# Altium footprint library CONN_A-4094-05A_MOL.PcbLib: 1 footprints
Each footprint in its own frame and in the unit in brackets; x right, y up, seen from the top. Pads: shape width x height; smd on the part's side, far side on the other; paste and mask are expansions set on the pad; w line width, h text height; cw(c..) or ccw(c..) is an arc to the next point about the centre after c.
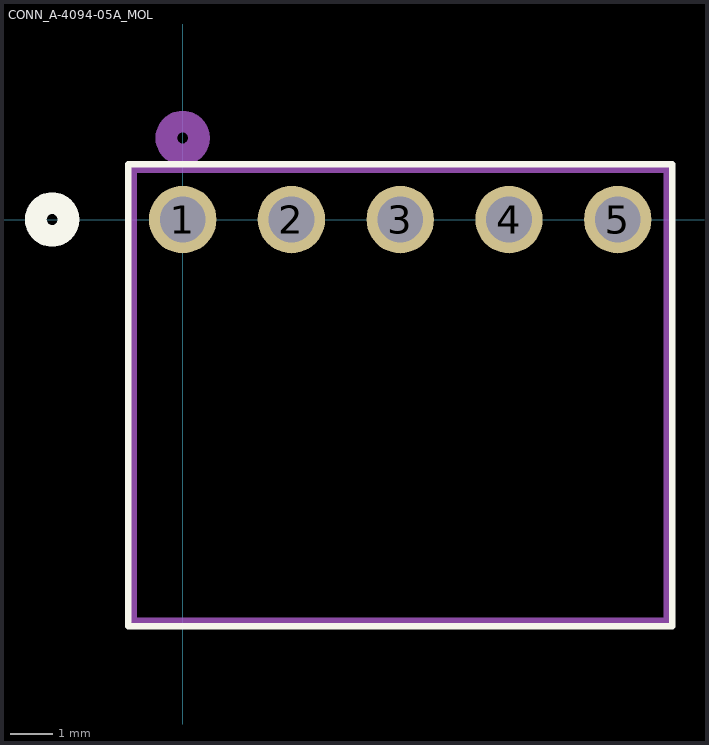
[diagram p0: the footprint, top view; thin cyan lines are the x and y axes]

## CONN_A-4094-05A_MOL [mil]
pads (5):
  round 62 hole 42: 1(0,0) 2(100,0) 3(200,0) 4(300,0) 5(400,0)
Top Overlay:
  lines w6: -50,-374 450,-374 450,51 -50,51 -50,-374
  lines w20: -135,0 ccw(c-120,0) -105,0 ccw(c-120,0) -135,0
Bottom Overlay:
  lines w20: -135,0 ccw(c-120,0) -105,0 ccw(c-120,0) -135,0
Assembly Top:
  lines w6: -45,-369 445,-369 445,46 -45,46 -45,-369
  lines w20: -15,75 ccw(c0,75) 15,75 ccw(c0,75) -15,75